# Altium footprint library PcbLib_V1.PcbLib: 20 footprints (part 2 of 2)
Each footprint in its own frame and in the unit in brackets; x right, y up, seen from the top. Pads: shape width x height; smd on the part's side, far side on the other; paste and mask are expansions set on the pad; w line width, h text height; cw(c..) or ccw(c..) is an arc to the next point about the centre after c.
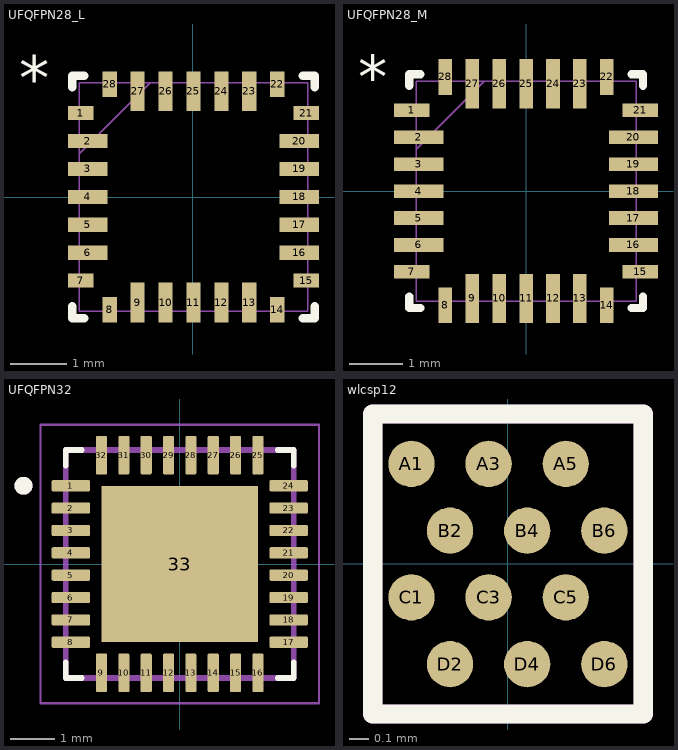
[diagram p1: the footprints below, top view; thin cyan lines are the x and y axes]

## UFQFPN28_L [mil]
pads (28):
  rect 18x10 smd: 1(-79.06,59.29) 7(-79.06,-58.82) 15(79.94,-58.82) 21(79.94,59.29)
  rect 28x10 smd: 2(-74.06,39.6) 3(-74.06,19.92) 4(-74.06,0.23) 5(-74.06,-19.45) 6(-74.06,-39.14) 16(74.94,-39.14) 17(74.94,-19.45) 18(74.94,0.23) 19(74.94,19.92) 20(74.94,39.6)
  rect 10x18 smd: 8(-58.62,-79.27) 14(59.49,-79.27) 22(59.49,79.73) 28(-58.62,79.73)
  rect 10x28 smd: 9(-38.93,-74.27) 10(-19.25,-74.27) 11(0.44,-74.27) 12(20.12,-74.27) 13(39.81,-74.27) 23(39.81,74.73) 24(20.12,74.73) 25(0.44,74.73) 26(-19.25,74.73) 27(-38.93,74.73)
Top Overlay:
  lines w6: -85.06,-76.92 -85.06,-85.27 -76.72,-85.27 ; -85.06,77.39 -85.06,85.73 -76.72,85.73 ; 77.59,-85.27 85.94,-85.27 85.94,-76.92 ; 77.59,85.73 85.94,85.73 85.94,77.39
  text "*" at -122.55,68.58 h31.25
Mechanical 1:
  lines w1: -80.06,30.73 -30.06,80.73 ; -80.06,-80.27 80.94,-80.27 80.94,80.73 -80.06,80.73 -80.06,-80.27 ; -80.06,-64.82 -80.06,-52.82 -80.06,-64.82 ; -80.06,-45.14 -80.06,-33.14 -80.06,-45.14 ; -80.06,-25.45 -80.06,-13.45 -80.06,-25.45 ; -80.06,-5.77 -80.06,6.23 -80.06,-5.77 ; -80.06,13.92 -80.06,25.92 -80.06,13.92 ; -80.06,33.6 -80.06,45.6 -80.06,33.6 ; -80.06,53.29 -80.06,65.29 -80.06,53.29 ; -64.62,-80.27 -52.62,-80.27 -64.62,-80.27 ; -64.62,80.73 -52.62,80.73 -64.62,80.73 ; -44.93,-80.27 -32.93,-80.27 -44.93,-80.27 ; -44.93,80.73 -32.93,80.73 -44.93,80.73 ; -25.25,-80.27 -13.25,-80.27 -25.25,-80.27 ; -25.25,80.73 -13.25,80.73 -25.25,80.73 ; -5.56,-80.27 6.44,-80.27 -5.56,-80.27 ; -5.56,80.73 6.44,80.73 -5.56,80.73 ; 14.12,-80.27 26.12,-80.27 14.12,-80.27 ; 14.12,80.73 26.12,80.73 14.12,80.73 ; 33.81,-80.27 45.81,-80.27 33.81,-80.27 ; 33.81,80.73 45.81,80.73 33.81,80.73 ; 53.49,-80.27 65.49,-80.27 53.49,-80.27 ; 53.49,80.73 65.49,80.73 53.49,80.73 ; 80.94,-64.82 80.94,-52.82 80.94,-64.82 ; 80.94,-45.14 80.94,-33.14 80.94,-45.14 ; 80.94,-25.45 80.94,-13.45 80.94,-25.45 ; 80.94,-5.77 80.94,6.23 80.94,-5.77 ; 80.94,13.92 80.94,25.92 80.94,13.92 ; 80.94,33.6 80.94,45.6 80.94,33.6 ; 80.94,53.29 80.94,65.29 80.94,53.29
  text "*" at -122.55,68.58 h31.25
3D body "UFQFPN28-4x4mm.step": height 24.09, standoff 0, extent -80.07,-80.28 80.95,80.74

## UFQFPN28_M [mil]
pads (28):
  rect 26x10 smd: 1(-83.5,59.06) 7(-83.5,-59.06) 15(83.5,-59.06) 21(83.5,59.06)
  rect 36x10 smd: 2(-78.5,39.37) 3(-78.5,19.68) 4(-78.5,0) 5(-78.5,-19.68) 6(-78.5,-39.37) 16(78.5,-39.37) 17(78.5,-19.68) 18(78.5,0) 19(78.5,19.68) 20(78.5,39.37)
  rect 10x26 smd: 8(-59.06,-83.5) 14(59.06,-83.5) 22(59.06,83.5) 28(-59.06,83.5)
  rect 10x36 smd: 9(-39.37,-78.5) 10(-19.68,-78.5) 11(0,-78.5) 12(19.68,-78.5) 13(39.37,-78.5) 23(39.37,78.5) 24(19.68,78.5) 25(0,78.5) 26(-19.68,78.5) 27(-39.37,78.5)
Top Overlay:
  lines w6: -85.5,-77.16 -85.5,-85.5 -77.16,-85.5 ; -85.5,77.16 -85.5,85.5 -77.16,85.5 ; 77.16,-85.5 85.5,-85.5 85.5,-77.16 ; 77.16,85.5 85.5,85.5 85.5,77.16
  text "*" at -122.98,68.35 h31.25
Mechanical 1:
  lines w1: -80.5,30.5 -30.5,80.5 ; -80.5,-80.5 -80.5,80.5 80.5,80.5 80.5,-80.5 -80.5,-80.5 ; -80.5,-65.06 -80.5,-53.06 -80.5,-65.06 ; -80.5,-45.37 -80.5,-33.37 -80.5,-45.37 ; -80.5,-25.68 -80.5,-13.69 -80.5,-25.68 ; -80.5,-6 -80.5,6 -80.5,-6 ; -80.5,13.69 -80.5,25.68 -80.5,13.69 ; -80.5,33.37 -80.5,45.37 -80.5,33.37 ; -80.5,53.06 -80.5,65.06 -80.5,53.06 ; -65.06,-80.5 -53.06,-80.5 -65.06,-80.5 ; -65.06,80.5 -53.06,80.5 -65.06,80.5 ; -45.37,-80.5 -33.37,-80.5 -45.37,-80.5 ; -45.37,80.5 -33.37,80.5 -45.37,80.5 ; -25.68,-80.5 -13.69,-80.5 -25.68,-80.5 ; -25.68,80.5 -13.69,80.5 -25.68,80.5 ; -6,-80.5 6,-80.5 -6,-80.5 ; -6,80.5 6,80.5 -6,80.5 ; 13.69,-80.5 25.68,-80.5 13.69,-80.5 ; 13.69,80.5 25.68,80.5 13.69,80.5 ; 33.37,-80.5 45.37,-80.5 33.37,-80.5 ; 33.37,80.5 45.37,80.5 33.37,80.5 ; 53.06,-80.5 65.06,-80.5 53.06,-80.5 ; 53.06,80.5 65.06,80.5 53.06,80.5 ; 80.5,-65.06 80.5,-53.06 80.5,-65.06 ; 80.5,-45.37 80.5,-33.37 80.5,-45.37 ; 80.5,-25.68 80.5,-13.69 80.5,-25.68 ; 80.5,-6 80.5,6 80.5,-6 ; 80.5,13.69 80.5,25.68 80.5,13.69 ; 80.5,33.37 80.5,45.37 80.5,33.37 ; 80.5,53.06 80.5,65.06 80.5,53.06
  text "*" at -122.98,68.35 h31.25
3D body "UFQFPN28-4x4mm.step": height 24.09, standoff 0, extent -80.51,-80.51 80.51,80.51

## UFQFPN32 [mm] "UFQFPN32 - 32-pin, 5x5 mm, 0.5 mm pitch ultra thin fine pitch quad flat  package outline"
pads (33):
  rrect25% 0.86x0.25 smd: 1(-2.435,1.75) 2(-2.435,1.25) 3(-2.435,0.75) 4(-2.435,0.25) 5(-2.435,-0.25) 6(-2.435,-0.75) 7(-2.435,-1.25) 8(-2.435,-1.75) 17(2.435,-1.75) 18(2.435,-1.25) 19(2.435,-0.75) 20(2.435,-0.25) 21(2.435,0.25) 22(2.435,0.75) 23(2.435,1.25) 24(2.435,1.75)
  rrect25% 0.25x0.86 smd: 9(-1.75,-2.435) 10(-1.25,-2.435) 11(-0.75,-2.435) 12(-0.25,-2.435) 13(0.25,-2.435) 14(0.75,-2.435) 15(1.25,-2.435) 16(1.75,-2.435) 25(1.75,2.435) 26(1.25,2.435) 27(0.75,2.435) 28(0.25,2.435) 29(-0.25,2.435) 30(-0.75,2.435) 31(-1.25,2.435) 32(-1.75,2.435)
  rect 3.5x3.5 smd paste-0.64: 33(0,0)
Top Overlay:
  circle w0.2: c-3.495,1.75 r0.1
  lines w0.127: -2.55,-2.195 -2.55,-2.55 -2.195,-2.55 ; -2.55,2.195 -2.55,2.55 -2.195,2.55 ; 2.195,-2.55 2.55,-2.55 2.55,-2.195 ; 2.195,2.55 2.55,2.55 2.55,2.195
Mechanical 13:
  circle w0.2: c-3.495,1.75 r0.1
  lines w0.127: -2.55,-2.55 2.55,-2.55 2.55,2.55 -2.55,2.55 -2.55,-2.55
Mechanical 15:
  lines w0.05: -3.115,-3.115 3.115,-3.115 3.115,3.115 -3.115,3.115 -3.115,-3.115
3D body "step_temp.STEP": height 0.6, standoff 0, extent -2.5,-2.5 2.5,2.5
3D body "UFQFPN32-5x5mm.step": height 0.56, standoff 0, extent -2.604,-2.604 2.604,2.604

## wlcsp12 [mm] "12-ball 1.555*1.403mm Body, 0.538 mm think, 0.40 mm pitch (4*6 Stanggered Array) WLCSP"
pads (12):
  round 0.24 smd mask+0: A1(-0.5,0.519) A3(-0.1,0.519) A5(0.3,0.519) B2(-0.3,0.173) B4(0.1,0.173) B6(0.5,0.173) C1(-0.5,-0.173) C3(-0.1,-0.173) C5(0.3,-0.173) D2(-0.3,-0.519) D4(0.1,-0.519) D6(0.5,-0.519)
Top Overlay:
  lines w0.1: -0.701,-0.778 -0.701,0.777 0.702,0.777 0.702,-0.778 -0.701,-0.778
Mechanical 15:
  lines w0.1: -0.701,-0.778 -0.701,0.777 0.702,0.777 0.702,-0.778 -0.701,-0.778
3D body: height 0.38, standoff 0, extent -0.699,-0.763 0.698,0.761